# Altium footprint library ERJ2RKF4990X.PcbLib: 3 footprints
Each footprint in its own frame and in the unit in brackets; x right, y up, seen from the top. Pads: shape width x height; smd on the part's side, far side on the other; paste and mask are expansions set on the pad; w line width, h text height; cw(c..) or ccw(c..) is an arc to the next point about the centre after c.
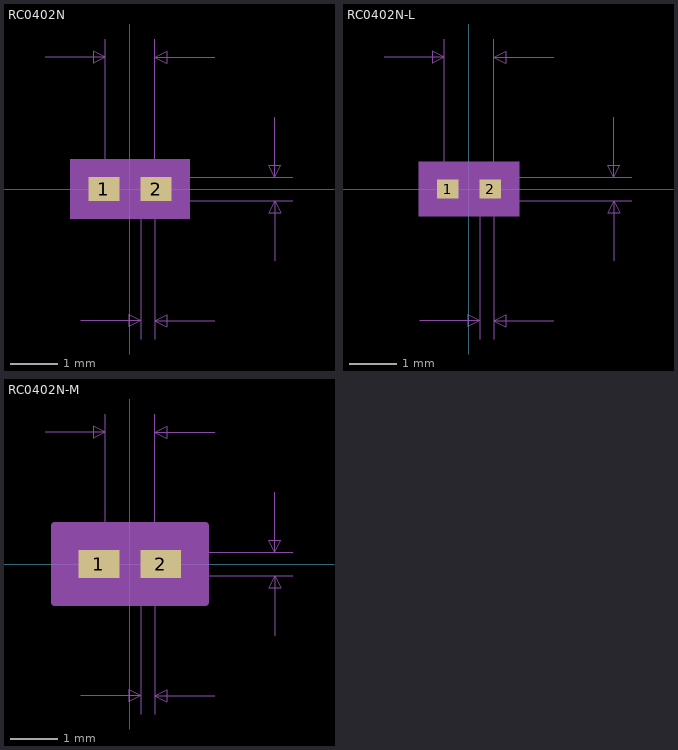
[diagram p0: the footprints below, top view; thin cyan lines are the x and y axes]

## RC0402N [mm]
pads (2):
  rect 0.656x0.5 smd: 1(-0.553,0) 2(0.553,0)
Mechanical 5:
  region: 1.262,-0.631 -1.262,-0.631 -1.262,0.631 1.262,0.631
Mechanical 7:
  lines w0.025: -1.795,2.79 -0.525,2.79 ; -1.045,-2.79 0.225,-2.79 ; -0.525,0 -0.525,3.171 ; 0,-0.25 3.446,-0.25 ; 0,0.25 3.446,0.25 ; 0.225,-3.171 0.225,0 ; 0.525,-3.171 0.525,0 0.525,3.171 ; 1.795,-2.79 0.525,-2.79 ; 1.795,2.79 0.525,2.79 ; 3.065,-1.52 3.065,-0.25 ; 3.065,1.52 3.065,0.25 ; -0.525,2.79 -0.779,2.917 -0.779,2.663 -0.525,2.79 ; 0.225,-2.79 -0.029,-2.663 -0.029,-2.917 0.225,-2.79 ; 0.525,-2.79 0.779,-2.663 0.779,-2.917 0.525,-2.79 ; 0.525,2.79 0.779,2.917 0.779,2.663 0.525,2.79 ; 3.065,-0.25 2.938,-0.504 3.192,-0.504 3.065,-0.25 ; 3.065,0.25 2.938,0.504 3.192,0.504 3.065,0.25
  text "Default Padstyle: RX25p81Y19p68D0T" at -10.795,-7.108 h1.27
  text "Alternate 1 Padstyle: OX60Y90D30P" at -10.477,-9.648 h1.27
  text "Alternate 2 Padstyle: OX90Y60D30P" at -10.477,-12.188 h1.27
  text "0.02in/0.5mm" at 3.573,-0.318 h0.64
  text "0.041in/1.05mm" at -2.222,3.298 h0.64
  text "0.012in/0.3mm" at -1.689,-3.933 h0.64
Mechanical 13:
  lines w0.025: -0.525,-0.25 -0.525,0.25 ; -0.525,-0.25 -0.225,-0.25 -0.225,0.25 -0.525,0.25 ; -0.525,-0.25 0.525,-0.25 ; -0.525,-0.25 -0.525,0.25 ; -0.525,0.25 0.525,0.25 ; 0.525,-0.25 0.225,-0.25 0.225,0.25 0.525,0.25 ; 0.525,-0.25 0.525,0.25 ; 0.525,-0.25 0.525,0.25
Mechanical 15:
  region: 1.135,-0.504 -1.135,-0.504 -1.135,0.504 1.135,0.504
  lines w0.152: -1.135,-0.504 -1.135,0.504 1.135,0.504 1.135,-0.504 -1.135,-0.504
3D body: height 0.25, standoff 0, extent 0,0 0.254,0.254

## RC0402N-L [mm]
pads (2):
  rect 0.452x0.398 smd paste+0 mask+0: 1(-0.451,0) 2(0.451,0)
Mechanical 5:
  region: 1.058,-0.58 -1.058,-0.58 -1.058,0.58 1.058,0.58
Mechanical 7:
  lines w0.025: -1.795,2.79 -0.525,2.79 ; -1.045,-2.79 0.225,-2.79 ; -0.525,0 -0.525,3.171 ; 0,-0.25 3.446,-0.25 ; 0,0.25 3.446,0.25 ; 0.225,-3.171 0.225,0 ; 0.525,-3.171 0.525,0 0.525,3.171 ; 1.795,-2.79 0.525,-2.79 ; 1.795,2.79 0.525,2.79 ; 3.065,-1.52 3.065,-0.25 ; 3.065,1.52 3.065,0.25 ; -0.525,2.79 -0.779,2.917 -0.779,2.663 -0.525,2.79 ; 0.225,-2.79 -0.029,-2.663 -0.029,-2.917 0.225,-2.79 ; 0.525,-2.79 0.779,-2.663 0.779,-2.917 0.525,-2.79 ; 0.525,2.79 0.779,2.917 0.779,2.663 0.525,2.79 ; 3.065,-0.25 2.938,-0.504 3.192,-0.504 3.065,-0.25 ; 3.065,0.25 2.938,0.504 3.192,0.504 3.065,0.25
  text "Default Padstyle: RX17p81Y15p68D0T" at -10.795,-7.057 h1.27
  text "Alternate 1 Padstyle: OX60Y90D30P" at -10.477,-9.597 h1.27
  text "Alternate 2 Padstyle: OX90Y60D30P" at -10.477,-12.137 h1.27
  text "0.02in/0.5mm" at 3.573,-0.318 h0.64
  text "0.041in/1.05mm" at -2.222,3.298 h0.64
  text "0.012in/0.3mm" at -1.689,-3.933 h0.64
Mechanical 13:
  lines w0.025: -0.525,-0.25 -0.525,0.25 ; -0.525,-0.25 -0.225,-0.25 -0.225,0.25 -0.525,0.25 ; -0.525,-0.25 0.525,-0.25 ; -0.525,-0.25 -0.525,0.25 ; -0.525,0.25 0.525,0.25 ; 0.525,-0.25 0.225,-0.25 0.225,0.25 0.525,0.25 ; 0.525,-0.25 0.525,0.25 ; 0.525,-0.25 0.525,0.25
Mechanical 15:
  region: 0.779,-0.301 -0.779,-0.301 -0.779,0.301 0.779,0.301
  lines w0.152: -0.779,-0.301 -0.779,0.301 0.779,0.301 0.779,-0.301 -0.779,-0.301
3D body: height 0.25, standoff 0, extent 0,0 0.254,0.254

## RC0402N-M [mm]
pads (2):
  rect 0.859x0.602 smd paste+0 mask+0: 1(-0.654,0) 2(0.654,0)
Mechanical 5:
  region: 1.465,-0.682 -1.465,-0.682 -1.465,0.682 1.465,0.682
Mechanical 7:
  lines w0.025: -1.795,2.79 -0.525,2.79 ; -1.045,-2.79 0.225,-2.79 ; -0.525,0 -0.525,3.171 ; 0,-0.25 3.446,-0.25 ; 0,0.25 3.446,0.25 ; 0.225,-3.171 0.225,0 ; 0.525,-3.171 0.525,0 0.525,3.171 ; 1.795,-2.79 0.525,-2.79 ; 1.795,2.79 0.525,2.79 ; 3.065,-1.52 3.065,-0.25 ; 3.065,1.52 3.065,0.25 ; -0.525,2.79 -0.779,2.917 -0.779,2.663 -0.525,2.79 ; 0.225,-2.79 -0.029,-2.663 -0.029,-2.917 0.225,-2.79 ; 0.525,-2.79 0.779,-2.663 0.779,-2.917 0.525,-2.79 ; 0.525,2.79 0.779,2.917 0.779,2.663 0.525,2.79 ; 3.065,-0.25 2.938,-0.504 3.192,-0.504 3.065,-0.25 ; 3.065,0.25 2.938,0.504 3.192,0.504 3.065,0.25
  text "Default Padstyle: RX33p81Y23p68D0T" at -10.795,-7.159 h1.27
  text "Alternate 1 Padstyle: OX60Y90D30P" at -10.477,-9.699 h1.27
  text "Alternate 2 Padstyle: OX90Y60D30P" at -10.477,-12.239 h1.27
  text "0.02in/0.5mm" at 3.573,-0.318 h0.64
  text "0.041in/1.05mm" at -2.222,3.298 h0.64
  text "0.012in/0.3mm" at -1.689,-3.933 h0.64
Mechanical 13:
  lines w0.025: -0.525,-0.25 -0.525,0.25 ; -0.525,-0.25 -0.225,-0.25 -0.225,0.25 -0.525,0.25 ; -0.525,-0.25 0.525,-0.25 ; -0.525,-0.25 -0.525,0.25 ; -0.525,0.25 0.525,0.25 ; 0.525,-0.25 0.225,-0.25 0.225,0.25 0.525,0.25 ; 0.525,-0.25 0.525,0.25 ; 0.525,-0.25 0.525,0.25
Mechanical 15:
  region: 1.592,-0.809 -1.592,-0.809 -1.592,0.809 1.592,0.809
  lines w0.152: -1.592,-0.809 -1.592,0.809 1.592,0.809 1.592,-0.809 -1.592,-0.809
3D body: height 0.25, standoff 0, extent 0,0 0.254,0.254